# Altium footprint library ESP32-DOWD-V3.PcbLib: 1 footprints
Each footprint in its own frame and in the unit in brackets; x right, y up, seen from the top. Pads: shape width x height; smd on the part's side, far side on the other; paste and mask are expansions set on the pad; w line width, h text height; cw(c..) or ccw(c..) is an arc to the next point about the centre after c.
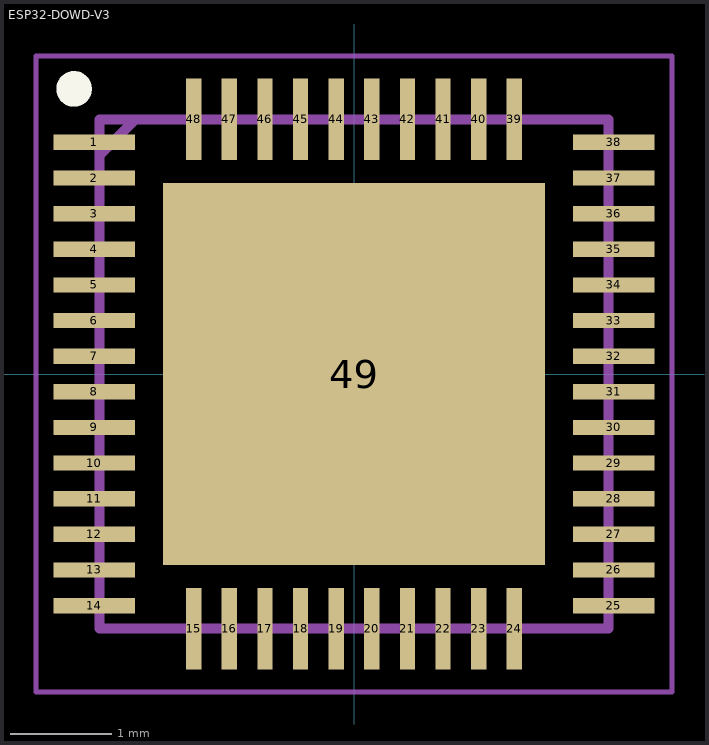
[diagram p0: the footprint, top view; thin cyan lines are the x and y axes]

## ESP32-DOWD-V3 [mm]
pads (49):
  rect 0.8x0.15 smd: 1(-2.55,2.275) 2(-2.55,1.925) 3(-2.55,1.575) 4(-2.55,1.225) 5(-2.55,0.875) 6(-2.55,0.525) 7(-2.55,0.175) 8(-2.55,-0.175) 9(-2.55,-0.525) 10(-2.55,-0.875) 11(-2.55,-1.225) 12(-2.55,-1.575) 13(-2.55,-1.925) 14(-2.55,-2.275) 25(2.55,-2.275) 26(2.55,-1.925) 27(2.55,-1.575) 28(2.55,-1.225) 29(2.55,-0.875) 30(2.55,-0.525) 31(2.55,-0.175) 32(2.55,0.175) 33(2.55,0.525) 34(2.55,0.875) 35(2.55,1.225) 36(2.55,1.575) 37(2.55,1.925) 38(2.55,2.275)
  rect 0.15x0.8 smd: 15(-1.575,-2.5) 16(-1.225,-2.5) 17(-0.875,-2.5) 18(-0.525,-2.5) 19(-0.175,-2.5) 20(0.175,-2.5) 21(0.525,-2.5) 22(0.875,-2.5) 23(1.225,-2.5) 24(1.575,-2.5) 39(1.575,2.5) 40(1.225,2.5) 41(0.875,2.5) 42(0.525,2.5) 43(0.175,2.5) 44(-0.175,2.5) 45(-0.525,2.5) 46(-0.875,2.5) 47(-1.225,2.5) 48(-1.575,2.5)
  rect 3.75x3.75 smd: 49(0,0)
Top Overlay:
  circle w0.175: c-2.749,2.8 r0.088
Mechanical 13:
  lines w0.1: -2.5,2.15 -2.15,2.5 ; -2.5,-2.5 2.5,-2.5 2.5,2.5 -2.5,2.5 -2.5,-2.5
Mechanical 15:
  lines w0.05: -3.125,-3.125 3.125,-3.125 3.125,3.125 -3.125,3.125 -3.125,-3.125
3D body "ESP32-D0WD-V3.stp": height 0.9, standoff 0, extent -2.55,-2.55 2.55,2.55